# Altium footprint library PCB - POWER MODULE - MPS LGA-18 12x12x4.2mm.PCBLIB: 1 footprints
Each footprint in its own frame and in the unit in brackets; x right, y up, seen from the top. Pads: shape width x height; smd on the part's side, far side on the other; paste and mask are expansions set on the pad; w line width, h text height; cw(c..) or ccw(c..) is an arc to the next point about the centre after c.
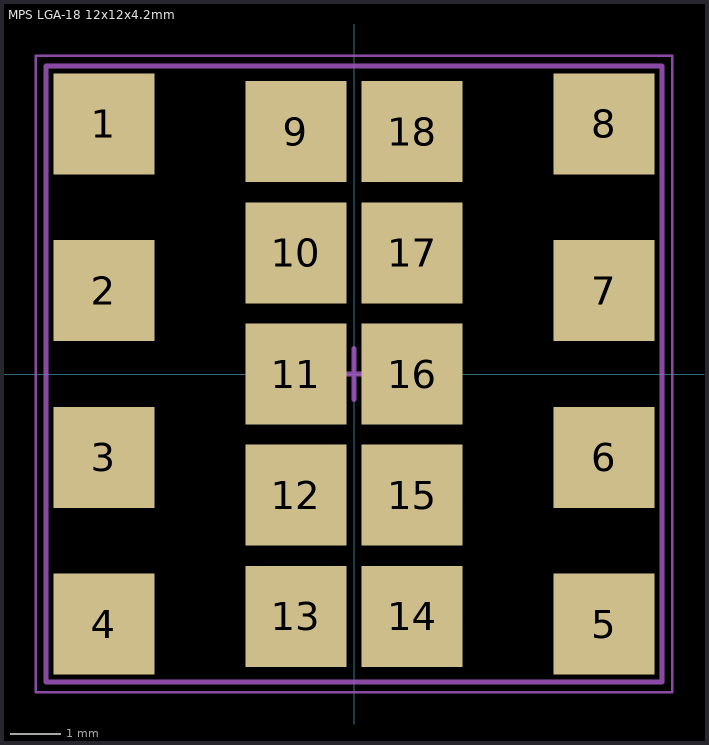
[diagram p0: the footprint, top view; thin cyan lines are the x and y axes]

## MPS LGA-18 12x12x4.2mm [mm] "LGA 18 leads 12 x 12 x 4.2mm, IPC Medium Density"
height 4.35
pads (18):
  rect 2x2 smd: 1(-4.95,4.95) 2(-4.95,1.65) 3(-4.95,-1.65) 4(-4.95,-4.95) 5(4.95,-4.95) 6(4.95,-1.65) 7(4.95,1.65) 8(4.95,4.95) 9(-1.15,4.8) 10(-1.15,2.4) 11(-1.15,0) 12(-1.15,-2.4) 13(-1.15,-4.8) 14(1.15,-4.8) 15(1.15,-2.4) 16(1.15,0) 17(1.15,2.4) 18(1.15,4.8)
Mechanical 13:
  lines w0.1: -6.1,-6.1 6.1,-6.1 6.1,6.1 -6.1,6.1 -6.1,-6.1
Mechanical 15:
  lines w0.05: -6.3,-6.3 6.3,-6.3 6.3,6.3 -6.3,6.3 -6.3,-6.3
  lines w0.1: -0.5,0 0.5,0 ; 0,-0.5 0,0.5
3D body "MPS LGA-18 12x12x4.2mm.step": height 5.1, standoff 0, extent -6.05,-6.05 6.05,6.05